# Altium schematic symbol library LCD5.0_RGB888.SCHLIB: 17 symbols
Pins are listed as number, name and electrical type; pins without a type are passive.

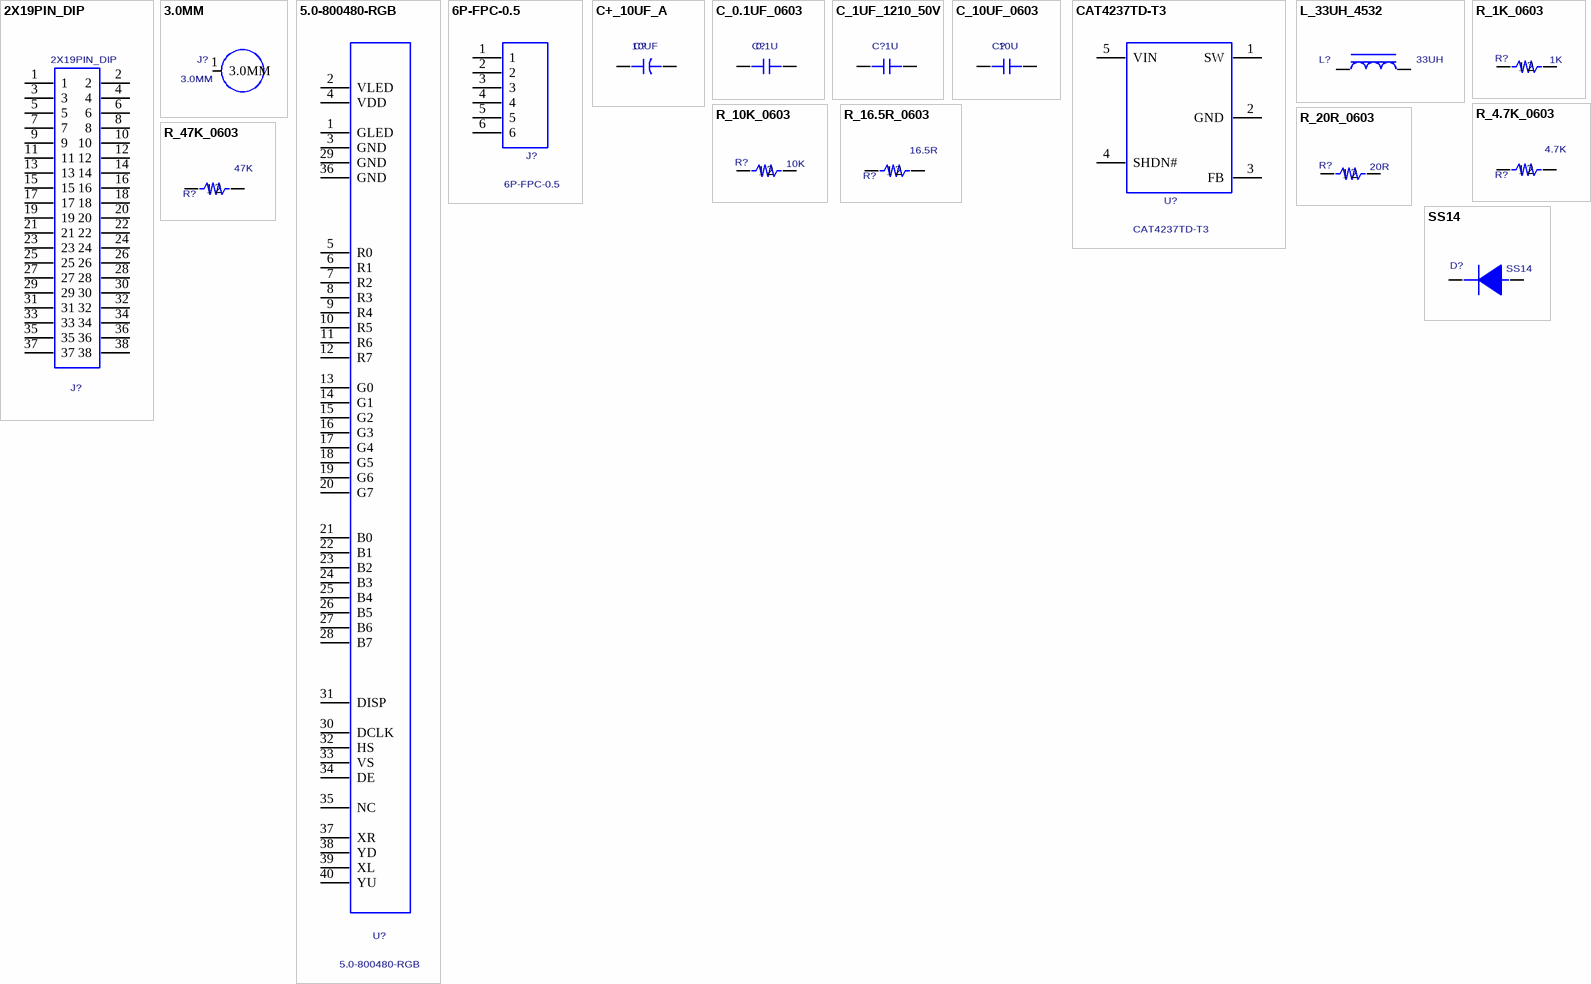
[diagram p0: symbols 2X19PIN_DIP to SS14]

## 2X19PIN_DIP
designator J?
PCB DECAL: 2X19X2.54MM
footprint 2X19X2.54MM
pins: 1, 2, 3, 4, 5, 6, 7, 8, 9, 10, 11, 12, 13, 14, 15, 16, 17, 18, 19, 20, 21, 22, 23, 24, 25, 26, 27, 28, 29, 30, 31, 32, 33, 34, 35, 36, 37, 38

## 3.0MM
designator J?
PCB DECAL: 3.0MM
footprint 3.0MM
pins: 1 3.0MM

## 5.0-800480-RGB
designator U?
PCB DECAL: TFT5.0; Value: FPC-0.5MM-40P
footprint TFT5.0
pins: 1 GLED, 2 VLED, 3 GND, 4 VDD, 5 R0, 6 R1, 7 R2, 8 R3, 9 R4, 10 R5, 11 R6, 12 R7, 13 G0, 14 G1, 15 G2, 16 G3, 17 G4, 18 G5, 19 G6, 20 G7, 21 B0, 22 B1, 23 B2, 24 B3, 25 B4, 26 B5, 27 B6, 28 B7, 29 GND, 30 DCLK, 31 DISP, 32 HS, 33 VS, 34 DE, 35 NC, 36 GND, 37 XR, 38 YD, 39 XL, 40 YU

## 6P-FPC-0.5
designator J?
Value: FPC-0.5MM-6P; PCB DECAL: 6P-FPC-0.5
footprint 6P-FPC-0.5
pins: 1, 2, 3, 4, 5, 6

## C+_10UF_A
designator C?  value 10UF  (hidden comment: C+_10UF_A)
PCB DECAL: AVX_A_3216-18
footprint AVX_A_3216-18
pins: 1 +, 2 -

## C_0.1UF_0603
designator C?  value 0.1U  (hidden comment: C_0.1UF_0603)
PCB DECAL: C_0603
footprint C_0603
pins: 1, 2

## C_1UF_1210_50V
designator C?  value 1U  (hidden comment: C_1UF_1210_50V)
PCB DECAL: 1210
footprint 1210
pins: 1, 2

## C_10UF_0603
designator C?  value 10U  (hidden comment: C_10UF_0603)
PCB DECAL: C_0603
footprint C_0603
pins: 1, 2

## CAT4237TD-T3
designator U?
PCB DECAL: SOT-23-5; Value: CAT4237TD-T3
footprint SOT-23-5
pins: 1 SW, 2 GND, 3 FB, 4 SHDN#, 5 VIN

## L_33UH_4532
designator L?  value 33UH  (hidden comment: L_33UH_4532)
PCB DECAL: GDCD4532
footprint GDCD4532
pins: 1, 2

## R_1K_0603
designator R?  value 1K  (hidden comment: R_1K_0603)
PCB DECAL: R_0603
footprint R_0603
pins: 1, 2

## R_4.7K_0603
designator R?  value 4.7K  (hidden comment: R_4.7K_0603)
PCB DECAL: R_0603
footprint R_0603
pins: 1, 2

## R_10K_0603
designator R?  value 10K  (hidden comment: R_10K_0603)
PCB DECAL: R_0603
footprint R_0603
pins: 1, 2

## R_16.5R_0603
designator R?  value 16.5R  (hidden comment: R_16.5R_0603)
PCB DECAL: R_0603
footprint R_0603
pins: 1, 2

## R_20R_0603
designator R?  value 20R  (hidden comment: R_20R_0603)
PCB DECAL: R_0603
footprint R_0603
pins: 1, 2

## R_47K_0603
designator R?  value 47K  (hidden comment: R_47K_0603)
PCB DECAL: R_0603
footprint R_0603
pins: 1, 2

## SS14
designator D?
PCB DECAL: SS24_1206; Value: SS14
footprint SS24_1206
pins: 1 +, 2 -